# EAGLE library part UPG2179TB (library Ava)
The μPG2179TB is a GaAs MMIC L, S-band SPDT (Single Pole Double Throw) switch for mobile phone and other L, S-band applications. This device operates with dual control voltages of 2.5 to 5.3 V. This device can operate from 0.05 to 3.0 GHz, with low insertion loss and high isolation. http://datasheet.octopart.com/UPG2179TB-E4-A-NEC-datasheet-26379.pdf Layout by Anthony Stirk M0UPU UNTESTED
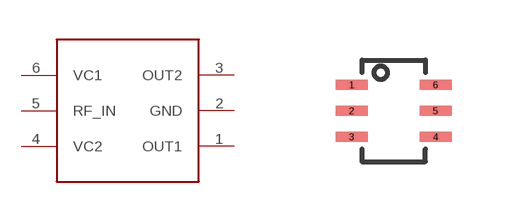
[diagram p13: symbol with the pads of SUPER_MINIMOLD; footprint SUPER_MINIMOLD]

Designator prefix -

## UPG2179TB  [SUPER_MINIMOLD]
1  OUT1
2  GND
3  OUT2
4  VC2
5  RF_IN
6  VC1

## Footprint SUPER_MINIMOLD (pad centres in mm)
smd 0.8 x 0.25: 1 -1.05,0.65; 2 -1.05,0; 3 -1.05,-0.65; 4 1.05,-0.65; 5 1.05,0; 6 1.05,0.65